# Altium schematic symbol library HGCD2Lib.SchLib: 3 symbols
Pins are listed as number, name and electrical type; pins without a type are passive.

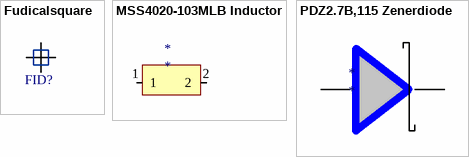
[diagram p0: symbols Fudicalsquare to PDZ2.7B,115 Zenerdiode]

## Fudicalsquare
designator FID?, comment Fudical sq.  (value not drawn)
Fiducal square 1mm
footprint FIDUCIAL_SQ1mm_SQ5 (Square fuducial)
footprint FIDUCIAL_SQ1mm_SQ5

## MSS4020-103MLB Inductor
designator *
footprint MSS4020-103MLB
pins: 1, 2

## PDZ2.7B,115 Zenerdiode
designator *
footprint PDZ2.7B,115
footprint PDZ2.7B,115
footprint PDZ2.7B,115
pins: 1, 2